# Altium schematic symbol library imxbb.SCHLIB: 78 symbols
Pins are listed as number, name and electrical type; pins without a type are passive.

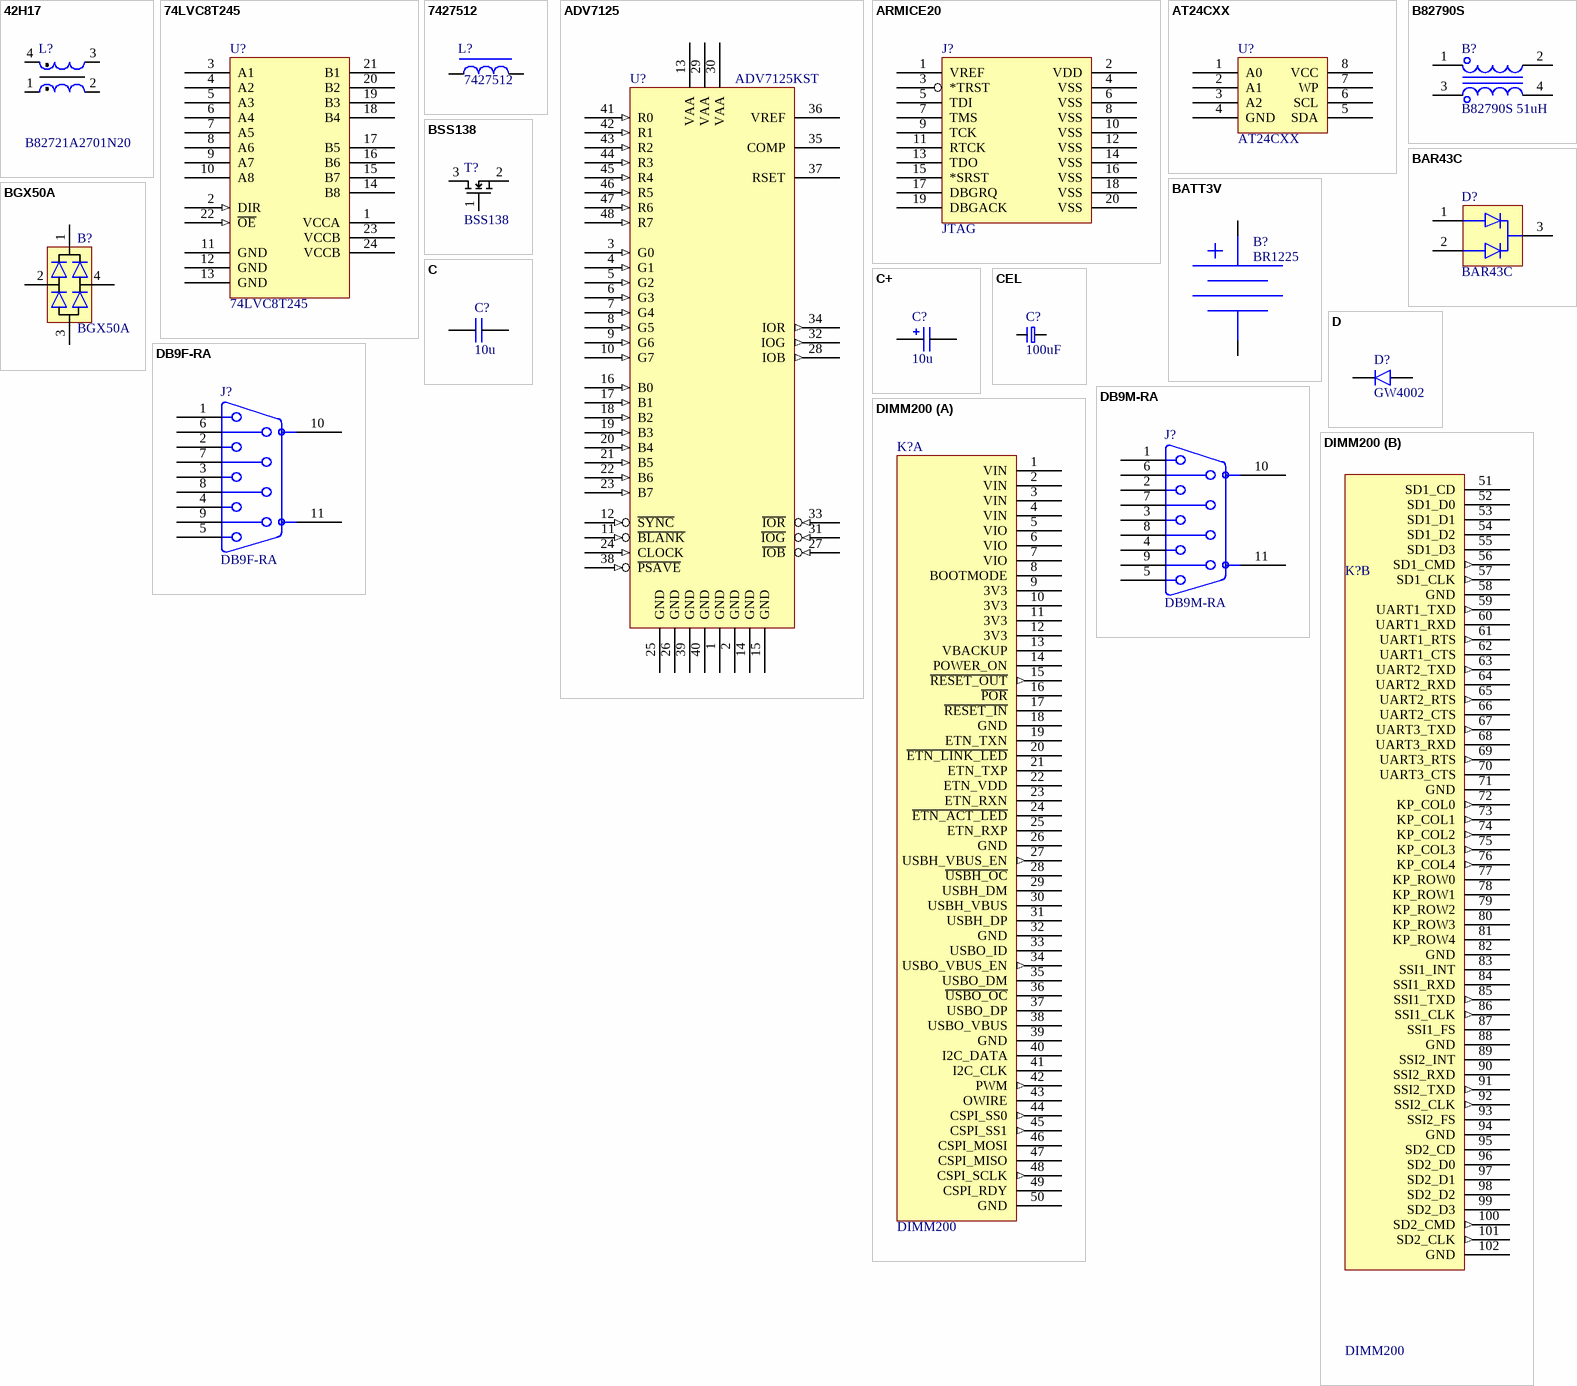
[diagram p0: symbols 42H17 to DIMM200]

## 42H17
designator L?, comment B82721A2701N20
Current compensated choke 2x10mH/700mA; Producer: Epcos; Component class: L; Assembly type: TH; Order number: B82721A2701N20
footprint 42H17
pins: 1 (io), 2 (io), 3 (io), 4 (io)

## 74LVC8T245
designator U?
footprint TSSOP24
pins: 1 VCCA (power), 2 DIR (in), 3 A1, 4 A2, 5 A3, 6 A4, 7 A5, 8 A6, 9 A7, 10 A8, 11 GND (power), 12 GND (power), 13 GND (power), 14 B8, 15 B7, 16 B6, 17 B5, 18 B4, 19 B3, 20 B2, 21 B1, 22 ~{OE} (in), 23 VCCB (power), 24 VCCB (power)

## 7427512
designator L?
5A EMI ferit L; Producer: Wurth Electronic; Order number: 7427512; Component class: L; Assembly type: SMT
footprint 7427512
pins: 1, 2

## ADV7125
designator U?, comment ADV7125KST
footprint LQFP48
pins: 1 GND (power), 2 GND (power), 3 G0 (in), 4 G1 (in), 5 G2 (in), 6 G3 (in), 7 G4 (in), 8 G5 (in), 9 G6 (in), 10 G7 (in), 11 ~{BLANK} (in), 12 ~{SYNC} (in), 13 VAA (power), 14 GND (power), 15 GND (power), 16 B0 (in), 17 B1 (in), 18 B2 (in), 19 B3 (in), 20 B4 (in), 21 B5 (in), 22 B6 (in), 23 B7 (in), 24 CLOCK (in), 25 GND (power), 26 GND (power), 27 ~{IOB} (in), 28 IOB (out), 29 VAA (power), 30 VAA (power), 31 ~{IOG} (in), 32 IOG (out), 33 ~{IOR} (in), 34 IOR (out), 35 COMP, 36 VREF, 37 RSET, 38 ~{PSAVE} (in), 39 GND (power), 40 GND (power), 41 R0 (in), 42 R1 (in), 43 R2 (in), 44 R3 (in), 45 R4 (in), 46 R5 (in), 47 R6 (in), 48 R7 (in)

## ARMICE20
designator J?, comment JTAG
footprint H2x10
pins: 1 VREF, 2 VDD, 3 *TRST, 4 VSS, 5 TDI, 6 VSS, 7 TMS, 8 VSS, 9 TCK, 10 VSS, 11 RTCK, 12 VSS, 13 TDO, 14 VSS, 15 *SRST, 16 VSS, 17 DBGRQ, 18 VSS, 19 DBGACK, 20 VSS

## AT24CXX
designator U?
footprint SOIC8
footprint SOIC8N
pins: 1 A0, 2 A1, 3 A2, 4 GND, 5 SDA, 6 SCL, 7 WP, 8 VCC

## B82790S
designator B?, comment B82790S 51uH
footprint B82790; pin to pad 3>4 4>3
pins: 1, 2, 3, 4

## BAR43C
designator D?
footprint SOT23
pins: 1, 2, 3

## BATT3V
designator B?, comment BR1225
footprint BR1225
pins: 1 ANODE, 2 CATHODE

## BGX50A
designator B?
footprint SOT143
pins: 1, 2, 3, 4

## BSS138
designator T?
footprint SOT23
pins: 1 G, 2 S, 3 D

## C
designator C?, comment 10u
footprint 0402
footprint 0603
footprint 1206
footprint 0805
footprint 1n
pins: 1, 2

## C+
designator C?, comment 10u
footprint 3216A
footprint EC3.5/8
footprint EC5/10
footprint SC5/13
footprint SC5/21
footprint EC2/5
footprint CTANTALD
pins: 1, 2

## CEL
designator C?, comment 100uF
Low-ESR tantalum capacitor; Order number1: CTS 100uF 10V D; Package1: SMD D; Producer1: SOS; Component class: C
footprint CTANTALD
footprint CTANTALC
footprint CTANTALD
pins: 1, 2

## D
designator D?, comment GW4002
footprint MELF
pins: 1, 2

## DB9F-RA
designator J?
footprint DRA9_F
pins: 1, 2, 3, 4, 5, 6, 7, 8, 9, 10 SHIELD, 11 SHIELD

## DB9M-RA
designator J?
footprint DRA9_M
footprint DRA9_M_RA
pins: 1, 2, 3, 4, 5, 6 14, 7 15, 8 16, 9 17, 10 SHIELD, 11 SHIELD

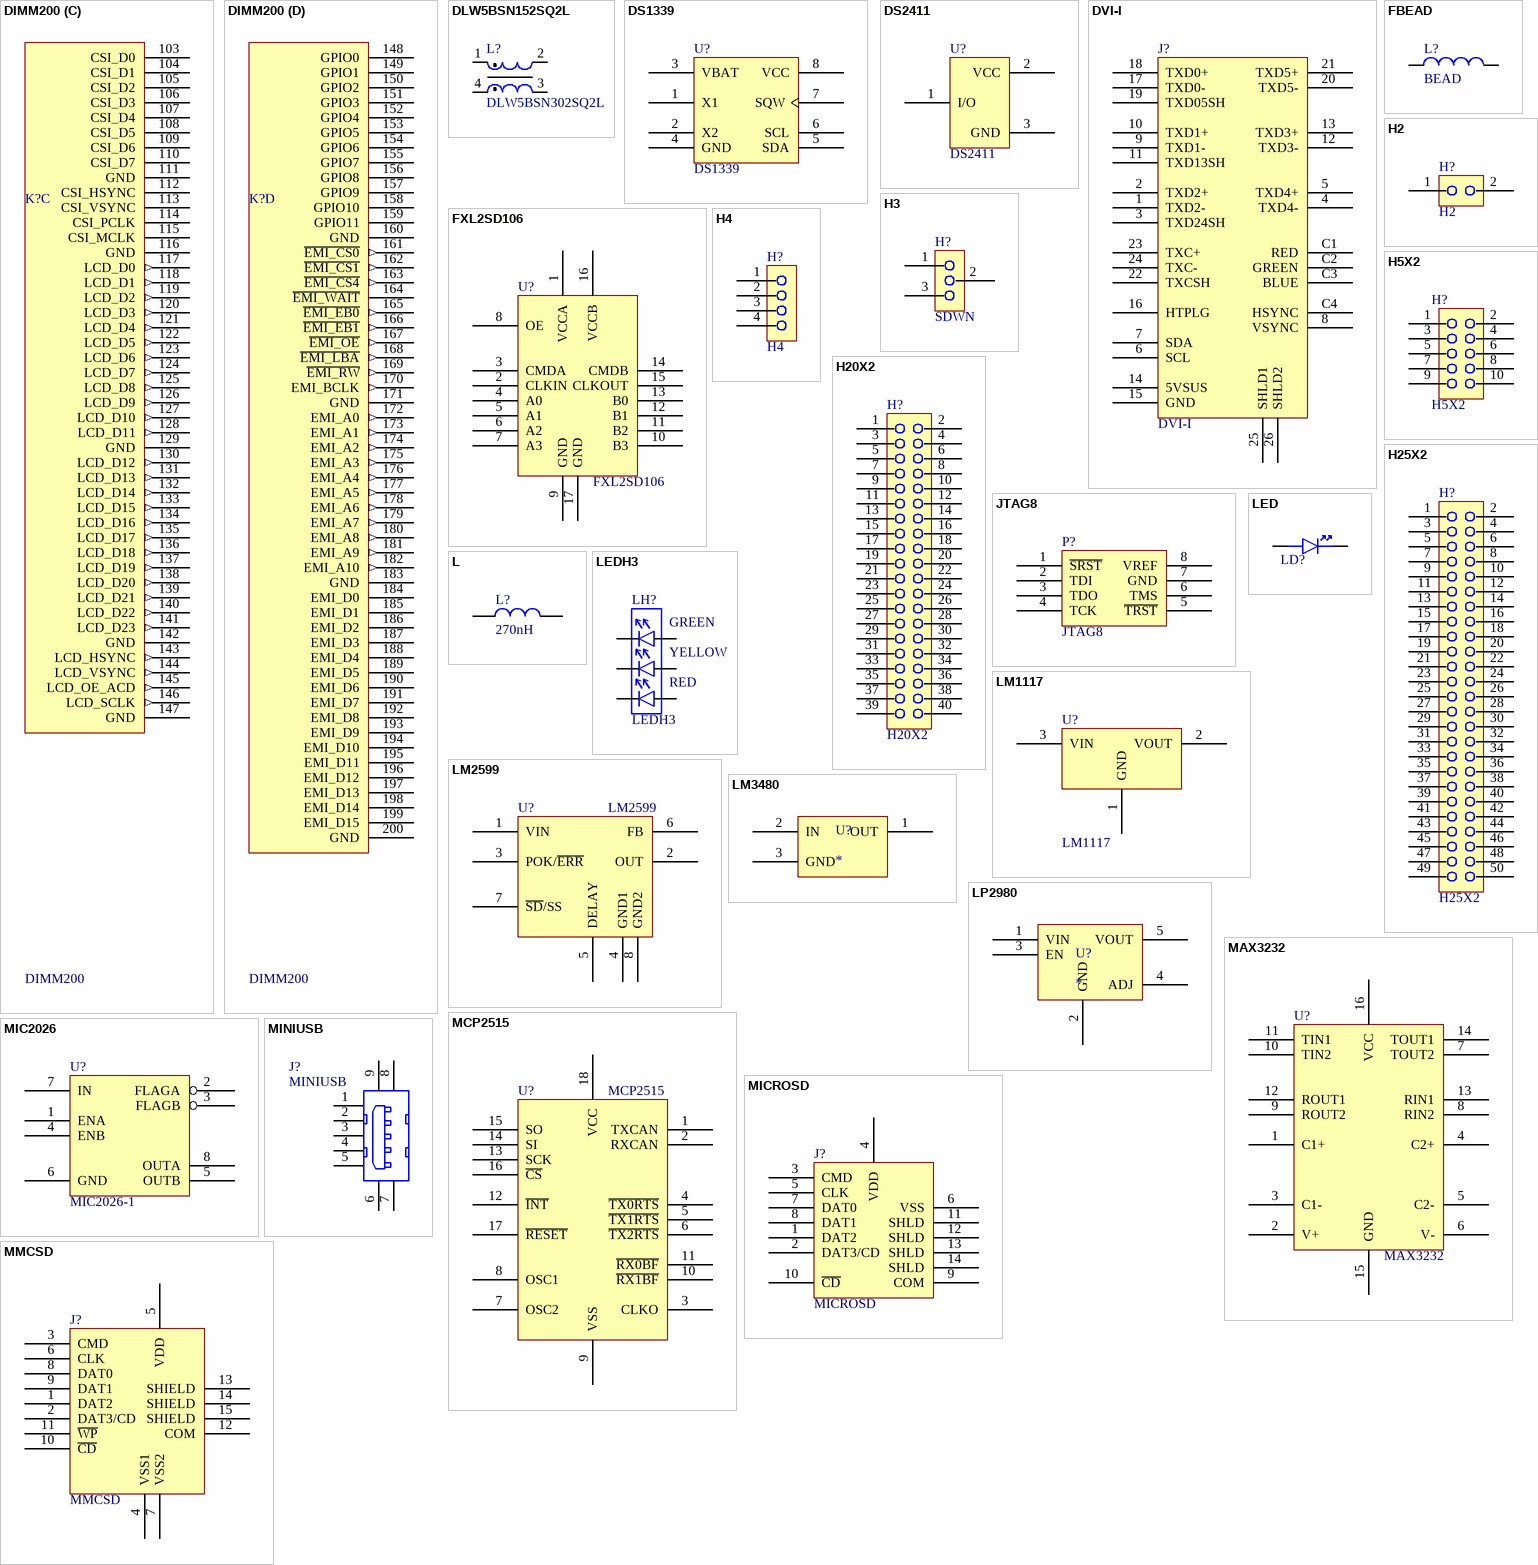
[diagram p1: symbols DIMM200 to MMCSD]

## DIMM200
designator K?
footprint SODIMM200EDGE
part A pins: 1 VIN, 2 VIN, 3 VIN, 4 VIN, 5 VIO, 6 VIO, 7 VIO, 8 BOOTMODE, 9 3V3, 10 3V3, 11 3V3, 12 3V3, 13 VBACKUP, 14 POWER_ON, 15 ~{RESET_OUT} (out), 16 ~{POR}, 17 ~{RESET_IN}, 18 GND, 19 ETN_TXN, 20 ~{ETN_LINK_LED}, 21 ETN_TXP, 22 ETN_VDD, 23 ETN_RXN, 24 ~{ETN_ACT_LED}, 25 ETN_RXP, 26 GND, 27 USBH_VBUS_EN (out), 28 ~{USBH_OC}, 29 USBH_DM, 30 USBH_VBUS, 31 USBH_DP, 32 GND, 33 USBO_ID, 34 USBO_VBUS_EN (out), 35 USBO_DM, 36 ~{USBO_OC}, 37 USBO_DP, 38 USBO_VBUS, 39 GND, 40 I2C_DATA, 41 I2C_CLK, 42 PWM (out), 43 OWIRE, 44 CSPI_SS0 (out), 45 CSPI_SS1 (out), 46 CSPI_MOSI, 47 CSPI_MISO, 48 CSPI_SCLK (out), 49 CSPI_RDY, 50 GND
part B pins: 51 SD1_CD, 52 SD1_D0, 53 SD1_D1, 54 SD1_D2, 55 SD1_D3, 56 SD1_CMD (out), 57 SD1_CLK (out), 58 GND, 59 UART1_TXD (out), 60 UART1_RXD, 61 UART1_RTS (out), 62 UART1_CTS, 63 UART2_TXD (out), 64 UART2_RXD, 65 UART2_RTS (out), 66 UART2_CTS, 67 UART3_TXD (out), 68 UART3_RXD, 69 UART3_RTS (out), 70 UART3_CTS, 71 GND, 72 KP_COL0 (out), 73 KP_COL1 (out), 74 KP_COL2 (out), 75 KP_COL3 (out), 76 KP_COL4 (out), 77 KP_ROW0, 78 KP_ROW1, 79 KP_ROW2, 80 KP_ROW3, 81 KP_ROW4, 82 GND, 83 SSI1_INT, 84 SSI1_RXD, 85 SSI1_TXD (out), 86 SSI1_CLK (out), 87 SSI1_FS, 88 GND, 89 SSI2_INT, 90 SSI2_RXD, 91 SSI2_TXD (out), 92 SSI2_CLK (out), 93 SSI2_FS, 94 GND, 95 SD2_CD, 96 SD2_D0, 97 SD2_D1, 98 SD2_D2, 99 SD2_D3, 100 SD2_CMD (out), 101 SD2_CLK (out), 102 GND
part C pins: 103 CSI_D0, 104 CSI_D1, 105 CSI_D2, 106 CSI_D3, 107 CSI_D4, 108 CSI_D5, 109 CSI_D6, 110 CSI_D7, 111 GND, 112 CSI_HSYNC, 113 CSI_VSYNC, 114 CSI_PCLK, 115 CSI_MCLK, 116 GND, 117 LCD_D0 (out), 118 LCD_D1 (out), 119 LCD_D2 (out), 120 LCD_D3 (out), 121 LCD_D4 (out), 122 LCD_D5 (out), 123 LCD_D6 (out), 124 LCD_D7 (out), 125 LCD_D8 (out), 126 LCD_D9 (out), 127 LCD_D10 (out), 128 LCD_D11 (out), 129 GND, 130 LCD_D12 (out), 131 LCD_D13 (out), 132 LCD_D14 (out), 133 LCD_D15 (out), 134 LCD_D16 (out), 135 LCD_D17 (out), 136 LCD_D18 (out), 137 LCD_D19 (out), 138 LCD_D20 (out), 139 LCD_D21 (out), 140 LCD_D22 (out), 141 LCD_D23 (out), 142 GND, 143 LCD_HSYNC (out), 144 LCD_VSYNC (out), 145 LCD_OE_ACD (out), 146 LCD_SCLK (out), 147 GND
part D pins: 148 GPIO0, 149 GPIO1, 150 GPIO2, 151 GPIO3, 152 GPIO4, 153 GPIO5, 154 GPIO6, 155 GPIO7, 156 GPIO8, 157 GPIO9, 158 GPIO10, 159 GPIO11, 160 GND, 161 ~{EMI_CS0} (out), 162 ~{EMI_CS1} (out), 163 ~{EMI_CS4} (out), 164 ~{EMI_WAIT}, 165 ~{EMI_EB0} (out), 166 ~{EMI_EB1} (out), 167 ~{EMI_OE} (out), 168 ~{EMI_LBA} (out), 169 ~{EMI_RW} (out), 170 EMI_BCLK (out), 171 GND, 172 EMI_A0 (out), 173 EMI_A1 (out), 174 EMI_A2 (out), 175 EMI_A3 (out), 176 EMI_A4 (out), 177 EMI_A5 (out), 178 EMI_A6 (out), 179 EMI_A7 (out), 180 EMI_A8 (out), 181 EMI_A9 (out), 182 EMI_A10 (out), 183 GND, 184 EMI_D0, 185 EMI_D1, 186 EMI_D2, 187 EMI_D3, 188 EMI_D4, 189 EMI_D5, 190 EMI_D6, 191 EMI_D7, 192 EMI_D8, 193 EMI_D9, 194 EMI_D10, 195 EMI_D11, 196 EMI_D12, 197 EMI_D13, 198 EMI_D14, 199 EMI_D15, 200 GND

## DLW5BSN152SQ2L
designator L?, comment DLW5BSN302SQ2L
EMI Suppression filter 1A; Producer: Murata; Component class: L; Assembly type: SMT; Order number: DLW5BSN302SQ2L
footprint DLW5BSN
pins: 1 (io), 2 (io), 3 (io), 4 (io)

## DS1339
designator U?
footprint uSOP8
pins: 1 X1, 2 X2, 3 VBAT, 4 GND, 5 SDA, 6 SCL, 7 SQW, 8 VCC

## DS2411
designator U?
footprint SOT23
pins: 1 I/O, 2 VCC, 3 GND

## DVI-I
designator J?
footprint DVI_F_RA
pins: 1 TXD2-, 2 TXD2+, 3 TXD24SH, 4 TXD4-, 5 TXD4+, 6 SCL, 7 SDA, 8 VSYNC, 9 TXD1-, 10 TXD1+, 11 TXD13SH, 12 TXD3-, 13 TXD3+, 14 5VSUS, 15 GND, 16 HTPLG, 17 TXD0-, 18 TXD0+, 19 TXD05SH, 20 TXD5-, 21 TXD5+, 22 TXCSH, 23 TXC+, 24 TXC-, 25 SHLD1, 26 SHLD2, C1 RED, C2 GREEN, C3 BLUE, C4 HSYNC

## FBEAD
designator L?, comment BEAD
footprint 0603
footprint 0805
pins: 1, 2

## FXL2SD106
designator U?
footprint DQFN16
pins: 1 VCCA, 2 CLKIN, 3 CMDA, 4 A0, 5 A1, 6 A2, 7 A3, 8 OE, 9 GND, 10 B3, 11 B2, 12 B1, 13 B0, 14 CMDB, 15 CLKOUT, 16 VCCB, 17 GND

## H2
designator H?
footprint H1x2
pins: 1, 2

## H3
designator H?, comment SDWN
footprint H1x3
pins: 1, 2, 3

## H4
designator H?
footprint H1x4
pins: 1, 2, 3, 4

## H5X2
designator H?
footprint H2x5
pins: 1, 2, 3, 4, 5, 6, 7, 8, 9, 10

## H20X2
designator H?
footprint H2x20
pins: 1, 2, 3, 4, 5, 6, 7, 8, 9, 10, 11, 12, 13, 14, 15, 16, 17, 18, 19, 20, 21, 22, 23, 24, 25, 26, 27, 28, 29, 30, 31, 32, 33, 34, 35, 36, 37, 38, 39, 40

## H25X2
designator H?
footprint H2x25
pins: 1, 2, 3, 4, 5, 6, 7, 8, 9, 10, 11, 12, 13, 14, 15, 16, 17, 18, 19, 20, 21, 22, 23, 24, 25, 26, 27, 28, 29, 30, 31, 32, 33, 34, 35, 36, 37, 38, 39, 40, 41, 42, 43, 44, 45, 46, 47, 48, 49, 50

## JTAG8
designator P?
footprint 47041-0001
pins: 1 ~{SRST}, 2 TDI, 3 TDO, 4 TCK, 5 ~{TRST}, 6 TMS, 7 GND, 8 VREF

## L
designator L?, comment 270nH
footprint L127_NS
footprint 0603
footprint 0805
pins: 1, 2

## LED
designator LD?  (value not drawn)
footprint 0805
pins: 1 ANODE, 2 CATHODE

## LEDH3
designator LH?
footprint LED HOLDER 3
pins: 1, 2, 3, 4, 5, 6
text: GREEN; YELLOW; RED

## LM1117
designator U?
footprint SOT223
pins: 1 GND, 2 VOUT, 3 VIN

## LM2599
designator U?
footprint TO263_7
pins: 1 VIN, 2 OUT, 3 POK/~{ERR}, 4 GND1, 5 DELAY, 6 FB, 7 ~{SD}/SS, 8 GND2

## LM3480
designator U?
footprint SOT23
pins: 1 OUT, 2 IN, 3 GND

## LP2980
designator U?
footprint SOT23-5
pins: 1 VIN, 2 GND, 3 EN, 4 ADJ, 5 VOUT

## MAX3232
designator U?
footprint SOIC16N
footprint TSSOP16
pins: 1 C1+, 2 V+, 3 C1-, 4 C2+, 5 C2-, 6 V-, 7 TOUT2, 8 RIN2, 9 ROUT2, 10 TIN2, 11 TIN1, 12 ROUT1, 13 RIN1, 14 TOUT1, 15 GND (power), 16 VCC (power)

## MCP2515
designator U?
footprint SOIC18W
pins: 1 TXCAN, 2 RXCAN, 3 CLKO, 4 ~{TX0RTS}, 5 ~{TX1RTS}, 6 ~{TX2RTS}, 7 OSC2, 8 OSC1, 9 VSS, 10 ~{RX1BF}, 11 ~{RX0BF}, 12 ~{INT}, 13 SCK, 14 SI, 15 SO, 16 ~{CS}, 17 ~{RESET}, 18 VCC

## MIC2026
designator U?, comment MIC2026-1
footprint SOIC8N
pins: 1 ENA, 2 FLAGA, 3 FLAGB, 4 ENB, 5 OUTB, 6 GND (power), 7 IN (power), 8 OUTA

## MICROSD
designator J?
footprint uSD10
pins: 1 DAT2, 2 DAT3/CD, 3 CMD, 4 VDD, 5 CLK, 6 VSS, 7 DAT0, 8 DAT1, 9 COM, 10 ~{CD}, 11 SHLD, 12 SHLD, 13 SHLD, 14 SHLD

## MINIUSB
designator J?
footprint MINI_USB_AB
pins: 1 VBUS, 2 D-, 3 D+, 4 ID, 5 GND (power), 6 SHIELD, 7 SHIELD, 8 SHIELD, 9 SHIELD

## MMCSD
designator J?
footprint SDCMF-109
pins: 1 DAT2, 2 DAT3/CD, 3 CMD, 4 VSS1, 5 VDD, 6 CLK, 7 VSS2, 8 DAT0, 9 DAT1, 10 ~{CD}, 11 ~{WP}, 12 COM, 13 SHIELD, 14 SHIELD, 15 SHIELD

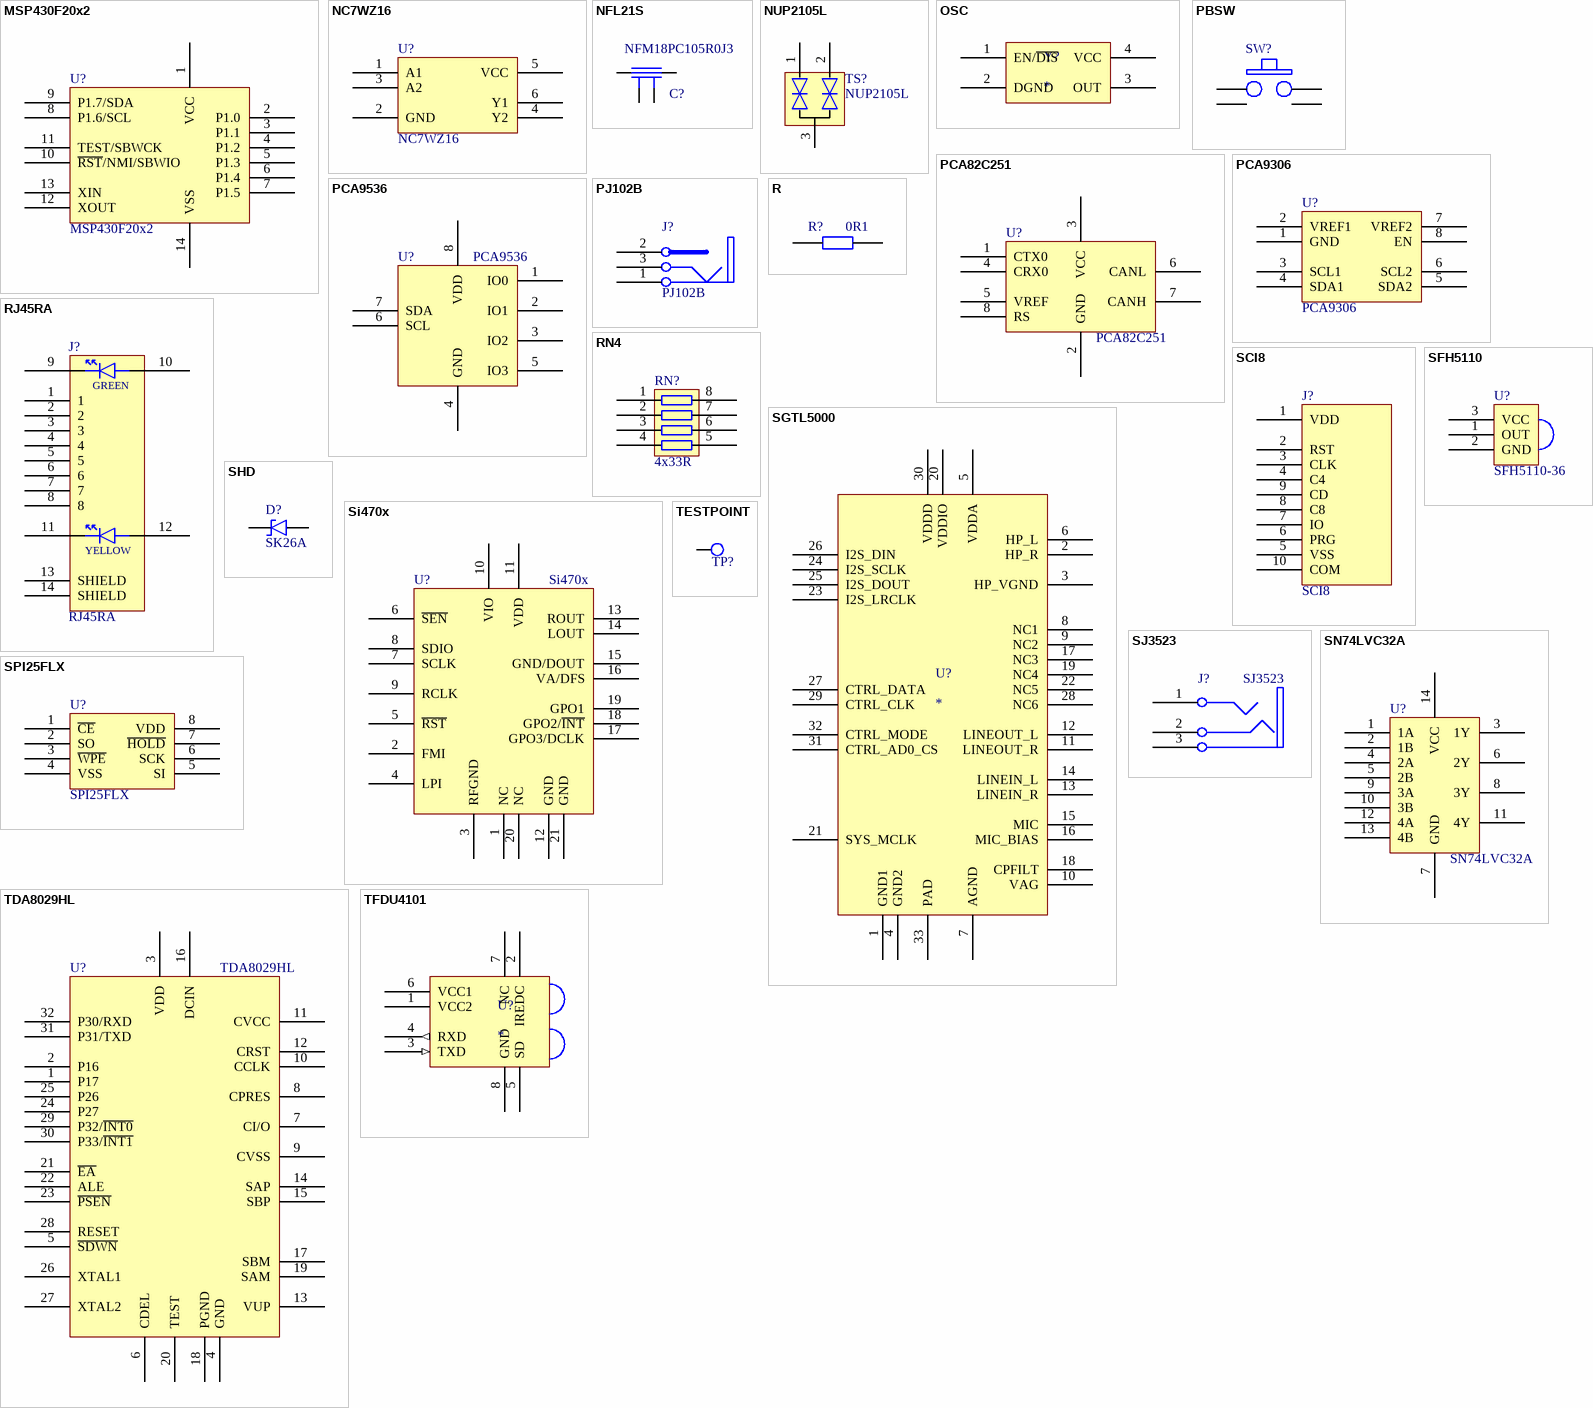
[diagram p2: symbols MSP430F20x2 to TFDU4101]

## MSP430F20x2
designator U?
footprint TSSOP14
pins: 1 VCC, 2 P1.0, 3 P1.1, 4 P1.2, 5 P1.3, 6 P1.4, 7 P1.5, 8 P1.6/SCL, 9 P1.7/SDA, 10 ~{RST}/NMI/SBWIO, 11 TEST/SBWCK, 12 XOUT, 13 XIN, 14 VSS

## NC7WZ16
designator U?
footprint SC70
pins: 1 A1, 2 GND, 3 A2, 4 Y2, 5 VCC, 6 Y1

## NFL21S
designator C?, comment NFM18PC105R0J3
Chip EMIFIL; Producer: Murata; Order number: NFM18PC105R0J3; Component class: C; Assembly type: SMT
signal-integrity model L (Model Description)
footprint NFM18P
pins: 1, 2, 3, 4

## NUP2105L
designator TS?
footprint SOT23
pins: 1, 2, 3

## OSC
designator Y?
footprint JO75
pins: 1 EN/~{DIS}, 2 DGND, 3 OUT, 4 VCC

## PBSW
designator SW?
footprint BUTTON_RA_NS
footprint BUTTON_KSM61X
pins: 1, 2, 3, 4

## PCA82C251
designator U?
footprint SOIC8N
pins: 1 CTX0, 2 GND, 3 VCC, 4 CRX0, 5 VREF, 6 CANL, 7 CANH, 8 RS

## PCA9306
designator U?
footprint TSSOP8
pins: 1 GND, 2 VREF1, 3 SCL1, 4 SDA1, 5 SDA2, 6 SCL2, 7 VREF2, 8 EN

## PCA9536
designator U?
footprint SOIC8N
footprint TSSOP8
pins: 1 IO0, 2 IO1, 3 IO2, 4 GND, 5 IO3, 6 SCL, 7 SDA, 8 VDD

## PJ102B
designator J?
footprint POWER_JACK_5.5/2.1MM_NS
pins: 1, 2, 3

## R
designator R?, comment 0R1
footprint 0402
footprint 0603
pins: 1, 2

## RJ45RA
designator J?
footprint RJ45LED
pins: 1, 2, 3, 4, 5, 6, 7, 8, 9 D1N, 10 D1P, 11 D2N, 12 D2P, 13 SHIELD, 14 SHIELD
text: GREEN; YELLOW

## RN4
designator RN?, comment 4x33R
footprint RX4_NS
pins: 1, 2, 3, 4, 5, 6, 7, 8

## SCI8
designator J?
footprint SCI8
footprint SCI8F
pins: 1 VDD, 2 RST, 3 CLK, 4 C4, 5 VSS, 6 PRG, 7 IO, 8 C8, 9 CD, 10 COM

## SFH5110
designator U?, comment SFH5110-36
footprint SFH511x
pins: 1 OUT, 2 GND, 3 VCC

## SGTL5000
designator U?
footprint QFN32
pins: 1 GND1, 2 HP_R, 3 HP_VGND, 4 GND2, 5 VDDA, 6 HP_L, 7 AGND, 8 NC1, 9 NC2, 10 VAG, 11 LINEOUT_R, 12 LINEOUT_L, 13 LINEIN_R, 14 LINEIN_L, 15 MIC, 16 MIC_BIAS, 17 NC3, 18 CPFILT, 19 NC4, 20 VDDIO, 21 SYS_MCLK, 22 NC5, 23 I2S_LRCLK, 24 I2S_SCLK, 25 I2S_DOUT, 26 I2S_DIN, 27 CTRL_DATA, 28 NC6, 29 CTRL_CLK, 30 VDDD, 31 CTRL_AD0_CS, 32 CTRL_MODE, 33 PAD

## SHD
designator D?, comment SK26A
footprint SMB
pins: 1, 2

## Si470x
designator U?
footprint QFN20
pins: 1 NC, 2 FMI, 3 RFGND, 4 LPI, 5 ~{RST}, 6 ~{SEN}, 7 SCLK, 8 SDIO, 9 RCLK, 10 VIO, 11 VDD, 12 GND, 13 ROUT, 14 LOUT, 15 GND/DOUT, 16 VA/DFS, 17 GPO3/DCLK, 18 GPO2/~{INT}, 19 GPO1, 20 NC, 21 GND

## SJ3523
designator J?
footprint SJ35_NS
pins: 1, 2, 3

## SN74LVC32A
designator U?
footprint TSSOP14
pins: 1 1A, 2 1B, 3 1Y, 4 2A, 5 2B, 6 2Y, 7 GND, 8 3Y, 9 3A, 10 3B, 11 4Y, 12 4A, 13 4B, 14 VCC

## SPI25FLX
designator U?
footprint SOIC8
pins: 1 ~{CE}, 2 SO, 3 ~{WPE}, 4 VSS, 5 SI, 6 SCK, 7 ~{HOLD}, 8 VDD

## TDA8029HL
designator U?
footprint LQFP32
pins: 1 P17, 2 P16, 3 VDD, 4 GND, 5 ~{SDWN}, 6 CDEL, 7 CI/O, 8 CPRES, 9 CVSS, 10 CCLK, 11 CVCC, 12 CRST, 13 VUP, 14 SAP, 15 SBP, 16 DCIN, 17 SBM, 18 PGND, 19 SAM, 20 TEST, 21 ~{EA}, 22 ALE, 23 ~{PSEN}, 24 P27, 25 P26, 26 XTAL1, 27 XTAL2, 28 RESET, 29 P32/~{INT0}, 30 P33/~{INT1}, 31 P31/TXD, 32 P30/RXD

## TESTPOINT
designator TP?  (value not drawn)
Order number: no component; Component class: TP; Producer: n/a; Assembly type: no component
signal-integrity model Test (Model Description)
footprint TESTPOINT
footprint TESTPOINT_2mm
pins: 1

## TFDU4101
designator U?
footprint TDFU4101
pins: 1 VCC2, 2 IREDC, 3 TXD (in), 4 RXD (out), 5 SD, 6 VCC1, 7 NC, 8 GND

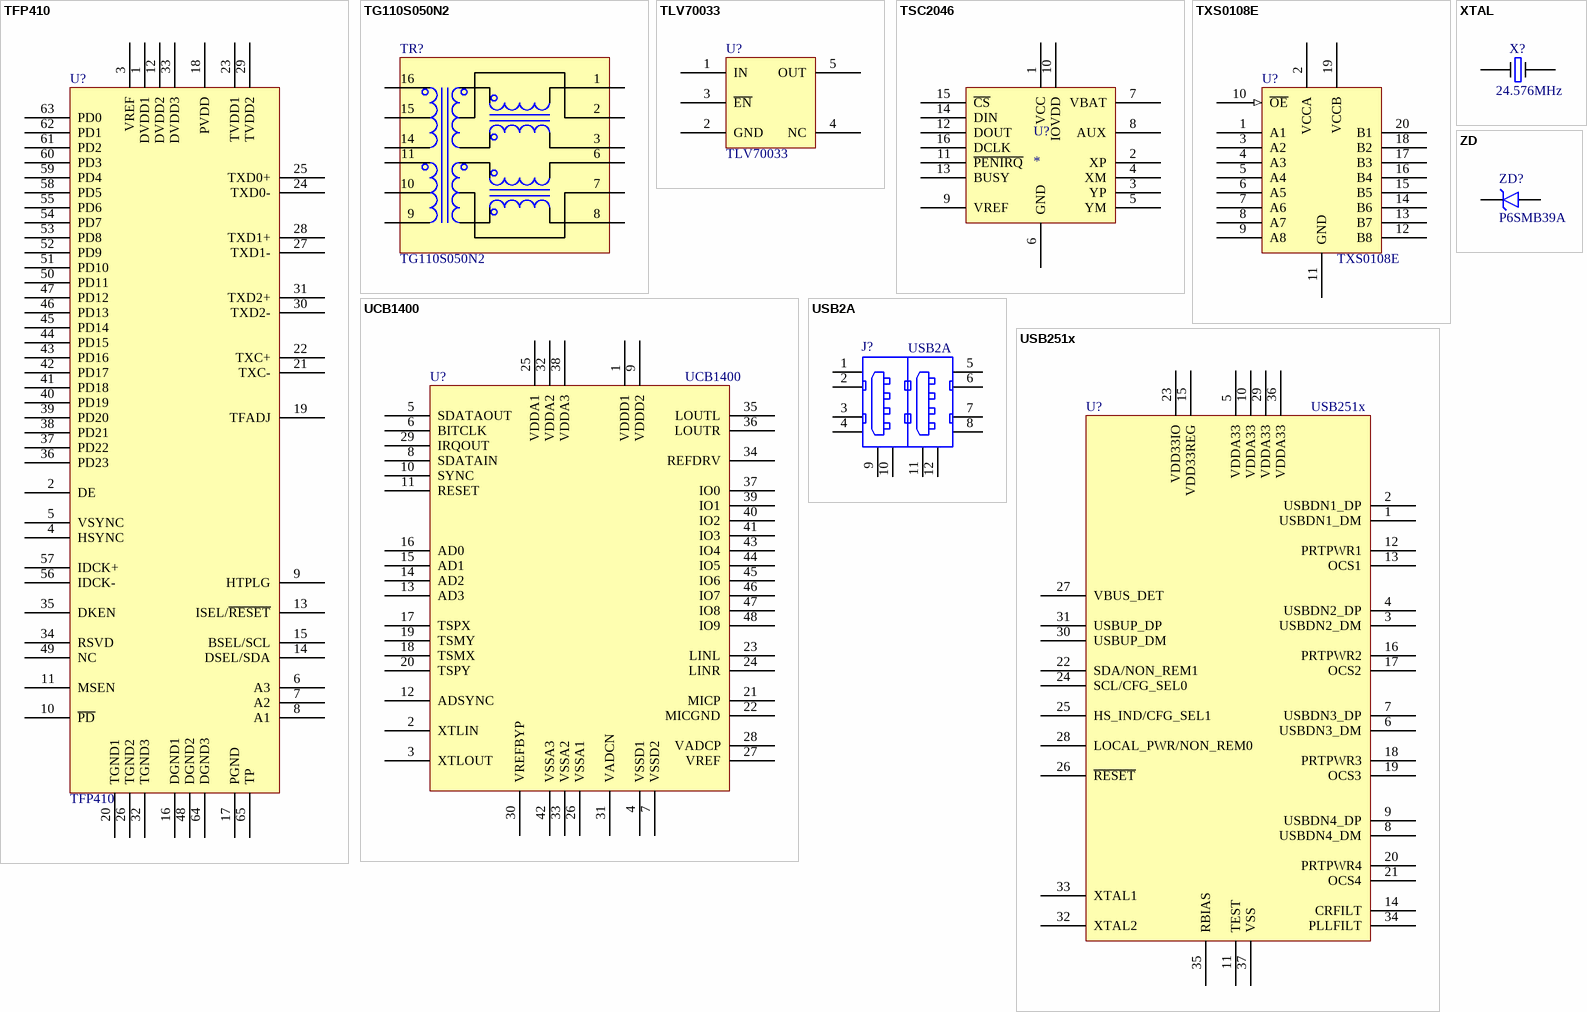
[diagram p3: symbols TFP410 to ZD]

## TFP410
designator U?
footprint TQFP64
pins: 1 DVDD1, 2 DE, 3 VREF, 4 HSYNC, 5 VSYNC, 6 A3, 7 A2, 8 A1, 9 HTPLG, 10 ~{PD}, 11 MSEN, 12 DVDD2, 13 ISEL/~{RESET}, 14 DSEL/SDA, 15 BSEL/SCL, 16 DGND1, 17 PGND, 18 PVDD, 19 TFADJ, 20 TGND1, 21 TXC-, 22 TXC+, 23 TVDD1, 24 TXD0-, 25 TXD0+, 26 TGND2, 27 TXD1-, 28 TXD1+, 29 TVDD2, 30 TXD2-, 31 TXD2+, 32 TGND3, 33 DVDD3, 34 RSVD, 35 DKEN, 36 PD23, 37 PD22, 38 PD21, 39 PD20, 40 PD19, 41 PD18, 42 PD17, 43 PD16, 44 PD15, 45 PD14, 46 PD13, 47 PD12, 48 DGND2, 49 NC, 50 PD11, 51 PD10, 52 PD9, 53 PD8, 54 PD7, 55 PD6, 56 IDCK-, 57 IDCK+, 58 PD5, 59 PD4, 60 PD3, 61 PD2, 62 PD1, 63 PD0, 64 DGND3, 65 TP

## TG110S050N2
designator TR?
footprint SOIC16M
pins: 1 P1, 2 P2, 3 P3, 6 P6, 7 P7, 8 P8, 9 P10, 10 P11, 11 P12, 14 P14, 15 CT, 16 P16

## TLV70033
designator U?
footprint SOT23-5
pins: 1 IN, 2 GND, 3 ~{EN}, 4 NC, 5 OUT

## TSC2046
designator U?
footprint TSSOP16
pins: 1 VCC, 2 XP, 3 YP, 4 XM, 5 YM, 6 GND, 7 VBAT, 8 AUX, 9 VREF, 10 IOVDD, 11 ~{PENIRQ}, 12 DOUT, 13 BUSY, 14 DIN, 15 ~{CS}, 16 DCLK

## TXS0108E
designator U?
footprint TSSOP20
pins: 1 A1, 2 VCCA (power), 3 A2, 4 A3, 5 A4, 6 A5, 7 A6, 8 A7, 9 A8, 10 ~{OE} (in), 11 GND (power), 12 B8, 13 B7, 14 B6, 15 B5, 16 B4, 17 B3, 18 B2, 19 VCCB (power), 20 B1

## UCB1400
designator U?
footprint LQFP48
pins: 1 VDDD1, 2 XTLIN, 3 XTLOUT, 4 VSSD1, 5 SDATAOUT, 6 BITCLK, 7 VSSD2, 8 SDATAIN, 9 VDDD2, 10 SYNC, 11 RESET, 12 ADSYNC, 13 AD3, 14 AD2, 15 AD1, 16 AD0, 17 TSPX, 18 TSMX, 19 TSMY, 20 TSPY, 21 MICP, 22 MICGND, 23 LINL, 24 LINR, 25 VDDA1, 26 VSSA1, 27 VREF, 28 VADCP, 29 IRQOUT, 30 VREFBYP, 31 VADCN, 32 VDDA2, 33 VSSA2, 34 REFDRV, 35 LOUTL, 36 LOUTR, 37 IO0, 38 VDDA3, 39 IO1, 40 IO2, 41 IO3, 42 VSSA3, 43 IO4, 44 IO5, 45 IO6, 46 IO7, 47 IO8, 48 IO9

## USB2A
designator J?
footprint USB-2A
pins: 1 VBUS, 2 D-, 3 D+, 4 GND, 5 VBUS2, 6 D2-, 7 D2+, 8 GND, 9 SHIELD, 10 SHIELD, 11 SHIELD, 12 SHIELD

## USB251x
designator U?
footprint QFN36
pins: 1 USBDN1_DM, 2 USBDN1_DP, 3 USBDN2_DM, 4 USBDN2_DP, 5 VDDA33, 6 USBDN3_DM, 7 USBDN3_DP, 8 USBDN4_DM, 9 USBDN4_DP, 10 VDDA33, 11 TEST, 12 PRTPWR1, 13 OCS1, 14 CRFILT, 15 VDD33REG, 16 PRTPWR2, 17 OCS2, 18 PRTPWR3, 19 OCS3, 20 PRTPWR4, 21 OCS4, 22 SDA/NON_REM1, 23 VDD33IO, 24 SCL/CFG_SEL0, 25 HS_IND/CFG_SEL1, 26 ~{RESET}, 27 VBUS_DET, 28 LOCAL_PWR/NON_REM0, 29 VDDA33, 30 USBUP_DM, 31 USBUP_DP, 32 XTAL2, 33 XTAL1, 34 PLLFILT, 35 RBIAS, 36 VDDA33, 37 VSS

## XTAL
designator X?, comment 24.576MHz
footprint JXS53
footprint JTX410
footprint SMQ32S
footprint HC494H
pins: 1, 2

## ZD
designator ZD?, comment P6SMB39A
footprint SMB
footprint DO214AA
pins: 1, 2